# EAGLE library part TLE7251_TLE7251V (library DASHBOARD_PARTS_LIB)
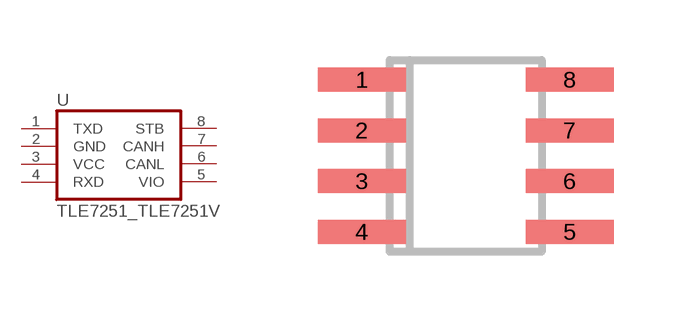
[diagram p5: symbol with the pads of TLE7251_SO8; footprint TLE7251_SO8]

Designator prefix U

## TLE7251_TLE7251VSO8  [TLE7251_SO8]
1  TXD
2  GND
3  VCC
4  RXD
5  VIO
6  CANL
7  CANH
8  STB

## Footprint TLE7251_SO8 (pad centres in mm)
8-Lead Small Outline IC (SO-8) Source: http://www.analog.com/UploadedFiles/Data_Sheets/703465986AD8611_2_0.pdf
smd 2.2 x 0.6: 1 -2.6,1.905; 2 -2.6,0.635; 3 -2.6,-0.635; 4 -2.6,-1.905; 5 2.6,-1.905; 6 2.6,-0.635; 7 2.6,0.635; 8 2.6,1.905